# EAGLE library part PCA9615DP (library NervousSys_V2)
Buffer, ReDriver 2 Channel 400kHz 10-TSSOP Source: Datasheet <http://www.nxp.com/docs/en/data-sheet/PCA9615.pdf>
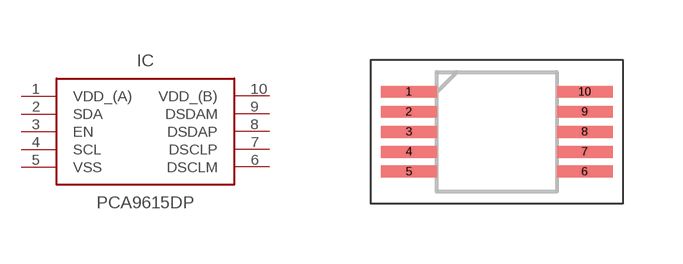
[diagram p1: symbol with the pads of SOP50P490X110-10N; footprint SOP50P490X110-10N]

Designator prefix IC

## PCA9615DP (DESCRIPTION: Buffer, ReDriver 2 Channel 400kHz 10-TSSOP; HEIGHT: 1.1mm; MANUFACTURER_NAME: Nexperia; MANUFACTURER_PART_NUMBER: PCA9615DP; SUPPLIER_NAME: RS)  [SOP50P490X110-10N]
1  VDD_(A)  pas
2  SDA  pas
3  EN  pas
4  SCL  pas
5  VSS  pas
6  DSCLM  pas
7  DSCLP  pas
8  DSDAP  pas
9  DSDAM  pas
10  VDD_(B)  pas

## Footprint SOP50P490X110-10N (pad centres in mm)
TSSOP10 (SOT552-1)
smd 1.4 x 0.3: 1 -2.2,1; 2 -2.2,0.5; 3 -2.2,0; 4 -2.2,-0.5; 5 -2.2,-1; 6 2.2,-1; 7 2.2,-0.5; 8 2.2,0; 9 2.2,0.5; 10 2.2,1